# Altium footprint library Molex Ultrafit 3x2 - 172299-1206.PcbLib: 1 footprints
Each footprint in its own frame and in the unit in brackets; x right, y up, seen from the top. Pads: shape width x height; smd on the part's side, far side on the other; paste and mask are expansions set on the pad; w line width, h text height; cw(c..) or ccw(c..) is an arc to the next point about the centre after c.
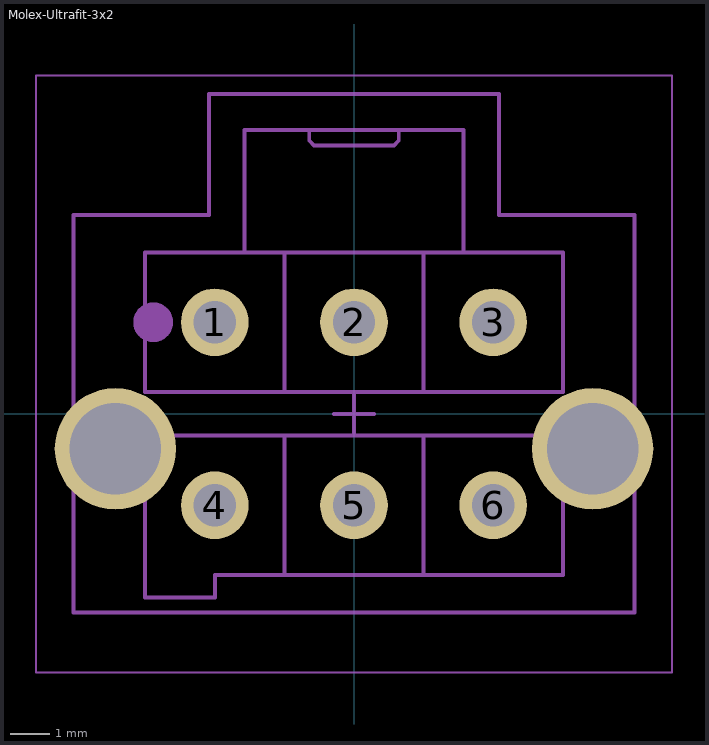
[diagram p0: the footprint, top view; thin cyan lines are the x and y axes]

## Molex-Ultrafit-3x2 [mm] "Molex Ultrafit 3x2 - 172299-1206"
height 14
pads (8):
  round 1.7 hole 1.06: 1(-3.5,2.3) 2(0,2.3) 3(3.5,2.3) 4(-3.5,-2.3) 5(0,-2.3) 6(3.5,-2.3)
  round 3.048 hole 2.3: ""(-6,-0.88) ""(6,-0.88)
Mechanical 6:
  text "'.Designator'" at -1.625,-0.225 h0.6
Mechanical 8:
  circle w0.5: c-5.05,2.3 r0.25
  lines w0.05: -8,-6.5 8,-6.5 8,8.5 -8,8.5 -8,-6.5
Mechanical 13:
  lines w0.1: -2.75,4.05 -2.75,7.14 2.75,7.14 2.75,4.05 ; -1.125,7.14 -1.125,6.875 -1,6.75 1,6.75 1.125,6.875 1.125,7.14 ; -5.25,-4.05 -5.25,-4.05 ; -5.25,-4.05 -5.25,-4.625 -3.5,-4.625 -3.5,-4.05 ; -5.25,-4.05 -5.25,-2.3 -5.25,-0.55 -3.5,-0.55 -1.75,-0.55 ; -3.5,-4.05 -3.5,-4.05 ; -3.5,-4.05 -1.75,-4.05 ; -1.75,-4.05 -1.75,-2.3 -1.75,-0.55 ; -1.75,-4.05 0,-4.05 1.75,-4.05 ; -1.75,-0.55 0,-0.55 1.75,-0.55 ; -1.75,0.55 0,0.55 1.75,0.55 ; -1.75,0.55 -1.75,2.3 -1.75,4.05 ; -1.75,0.55 -3.5,0.55 -5.25,0.55 -5.25,2.3 -5.25,4.05 -3.5,4.05 -1.75,4.05 ; -1.75,4.05 0,4.05 1.75,4.05 ; 1.75,-4.05 1.75,-2.3 1.75,-0.55 ; 1.75,-4.05 3.5,-4.05 5.25,-4.05 5.25,-2.3 5.25,-0.55 3.5,-0.55 1.75,-0.55 ; 1.75,0.55 1.75,2.3 1.75,4.05 ; 1.75,0.55 3.5,0.55 5.25,0.55 5.25,2.3 5.25,4.05 3.5,4.05 1.75,4.05 ; -7.05,-5 -7.05,5 -3.645,5 -3.645,8.035 3.645,8.035 3.645,5 7.05,5 7.05,-5 -7.05,-5
Mechanical 15:
  lines w0.05: -8,-6.5 -8,8.5 8,8.5 8,-6.5 -8,-6.5
  lines w0.1: -0.5,0 0.5,0 ; 0,-0.5 0,0.5
3D body "1722991206.stp": height 14.1, standoff -3.1, extent -7.05,-5.904 7.05,8.006